# EAGLE library part LM1972 (library bt_audio)
LM1972 μPot 2-Channel 78dB Audio Attenuator with Mute The LM1972 is a digitally controlled 2-channel 78dB2• 3-Wire Serial Interface audio attenuator fabricated on a CMOS process. Each channel has attenuation steps of 0.5dB from 0dB–47.5dB, 1.0dB steps from 48dB–78dB, with a mute function attenuating 104dB. Its logarithmic attenuation curve can be customized through software to fit the desired application. Datasheet.pdf <https://rocelec.widen.net/view/pdf/xs8qcbsz0v/lm1972.pdf>
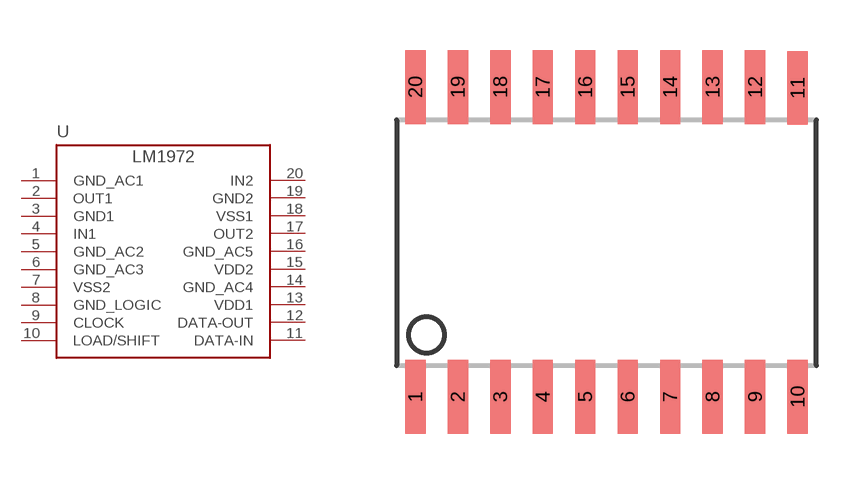
[diagram p0: symbol with the pads of SOIC20; footprint SOIC20]

Designator prefix U

## LM1972M  [SOIC20]
1  GND_AC1  sup
2  OUT1
3  GND1
4  IN1
5  GND_AC2  sup
6  GND_AC3  sup
7  VSS2
8  GND_LOGIC
9  CLOCK
10  LOAD/SHIFT
11  DATA-IN
12  DATA-OUT
13  VDD1
14  GND_AC4  sup
15  VDD2
16  GND_AC5  sup
17  OUT2
18  VSS1
19  GND2
20  IN2

## Footprint SOIC20 (pad centres in mm)
smd 0.61 x 2.21: 1 -5.715,-4.636; 2 -4.445,-4.636; 3 -3.175,-4.636; 4 -1.905,-4.636; 5 -0.635,-4.636; 6 0.635,-4.636; 7 1.905,-4.636; 8 3.175,-4.636; 9 4.445,-4.636; 10 5.715,-4.636; 11 5.715,4.61; 12 4.445,4.636; 13 3.175,4.636; 14 1.905,4.636; 15 0.635,4.636; 16 -0.635,4.636; 17 -1.905,4.636; 18 -3.175,4.636; 19 -4.445,4.636; 20 -5.715,4.636